# EAGLE library part NE555 (library Eagle CMR)
NE555 Precision Timers
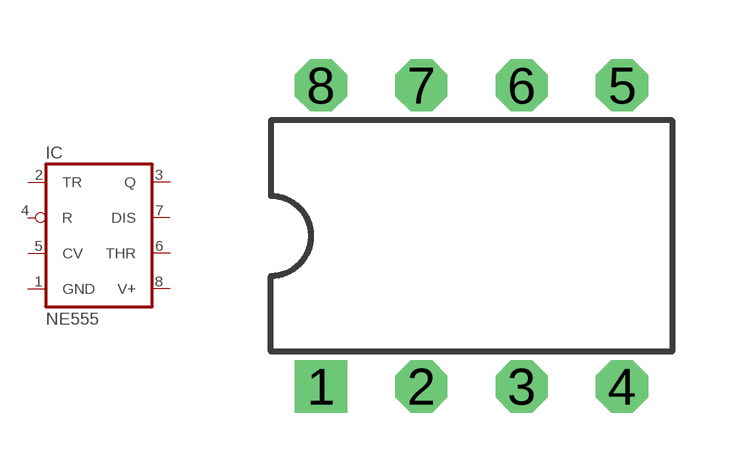
[diagram p11: symbol with the pads of DIL08; footprint DIL08]

Designator prefix IC

## NE555N (LCSC#: C398063; LCSC_LINK: https://lcsc.com/product-detail/Timer_HGSEMI-NE555N_C398063.html; MANUFACTURER: HGSEMI; MFR#: NE555N; PACKAGE: DIP08)  [DIL08]
1  GND  pwr
2  TR  in
3  Q  out
4  R  in
5  CV  in
6  THR  in
7  DIS  in
8  V+  pwr

## Footprint DIL08 (pad centres in mm)
Dual In Line Package
drill 0.813 square: 1 -3.81,-3.81
drill 0.813 octagon: 2 -1.27,-3.81; 3 1.27,-3.81; 4 3.81,-3.81; 5 3.81,3.81; 6 1.27,3.81; 7 -1.27,3.81; 8 -3.81,3.81